# EAGLE library part TPA3122D2_N_20 (library TPA3122)
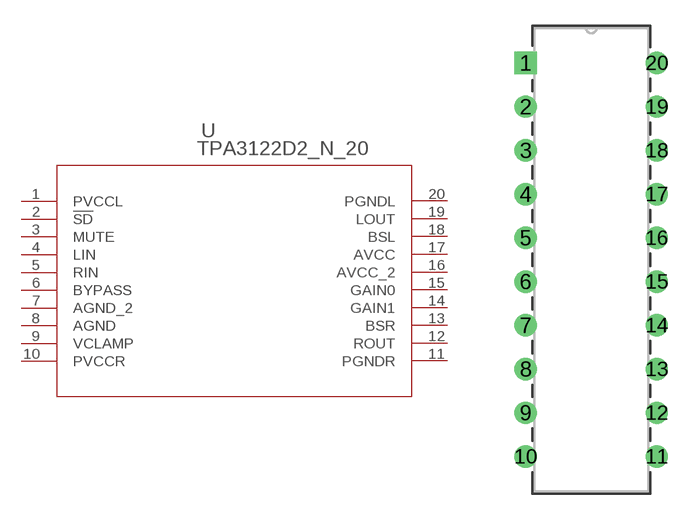
[diagram p0: symbol with the pads of N20; footprint N20]

Designator prefix U

## TPA3122D2_N_20 (MANUFACTURER_PART_NUMBER: TPA3122D2_N_20; VENDOR: Texas Instruments)  [N20]
1  PVCCL  pwr
2  !SD  in
3  MUTE  in
4  LIN  in
5  RIN  in
6  BYPASS  out
7  AGND_2  pwr
8  AGND  pwr
9  VCLAMP  pwr
10  PVCCR  pwr
11  PGNDR  pwr
12  ROUT  out
13  BSR
14  GAIN1  in
15  GAIN0  in
16  AVCC_2  pwr
17  AVCC  pwr
18  BSL
19  LOUT  out
20  PGNDL  pwr

## Footprint N20 (pad centres in mm)
drill 0.787 pad 1.295 square: 1 -7.62,22.86
drill 0.787 pad 1.295: 2 -7.62,20.32; 3 -7.62,17.78; 4 -7.62,15.24; 5 -7.62,12.7; 6 -7.62,10.16; 7 -7.62,7.62; 8 -7.62,5.08; 9 -7.62,2.54; 10 -7.62,0; 11 0,0; 12 0,2.54; 13 0,5.08; 14 0,7.62; 15 0,10.16; 16 0,12.7; 17 0,15.24; 18 0,17.78; 19 0,20.32; 20 0,22.86